# Altium schematic symbol library UMK105B7104KVHF.SchLib: 1 symbol
Pins are listed as number, name and electrical type; pins without a type are passive.

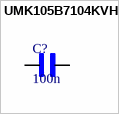
[diagram p0: symbol UMK105B7104KVHF]

## UMK105B7104KVHF
designator C?, comment 100n
CAP CER 0.1UF 50V X7R 0402; MF: {'manufacturer': u'Taiyo Yuden'}; MP: UMK105B7104KVHF; Package: None; Price: None; Value: *; Availability: Unavailable; Manufacturer_Part_Number: UMK105B7104KVHF
footprint CAPC1005X55N
pins: 1, 2